# Altium schematic symbol library BRye_SCHLib.SchLib: 46 symbols
Pins are listed as number, name and electrical type; pins without a type are passive.

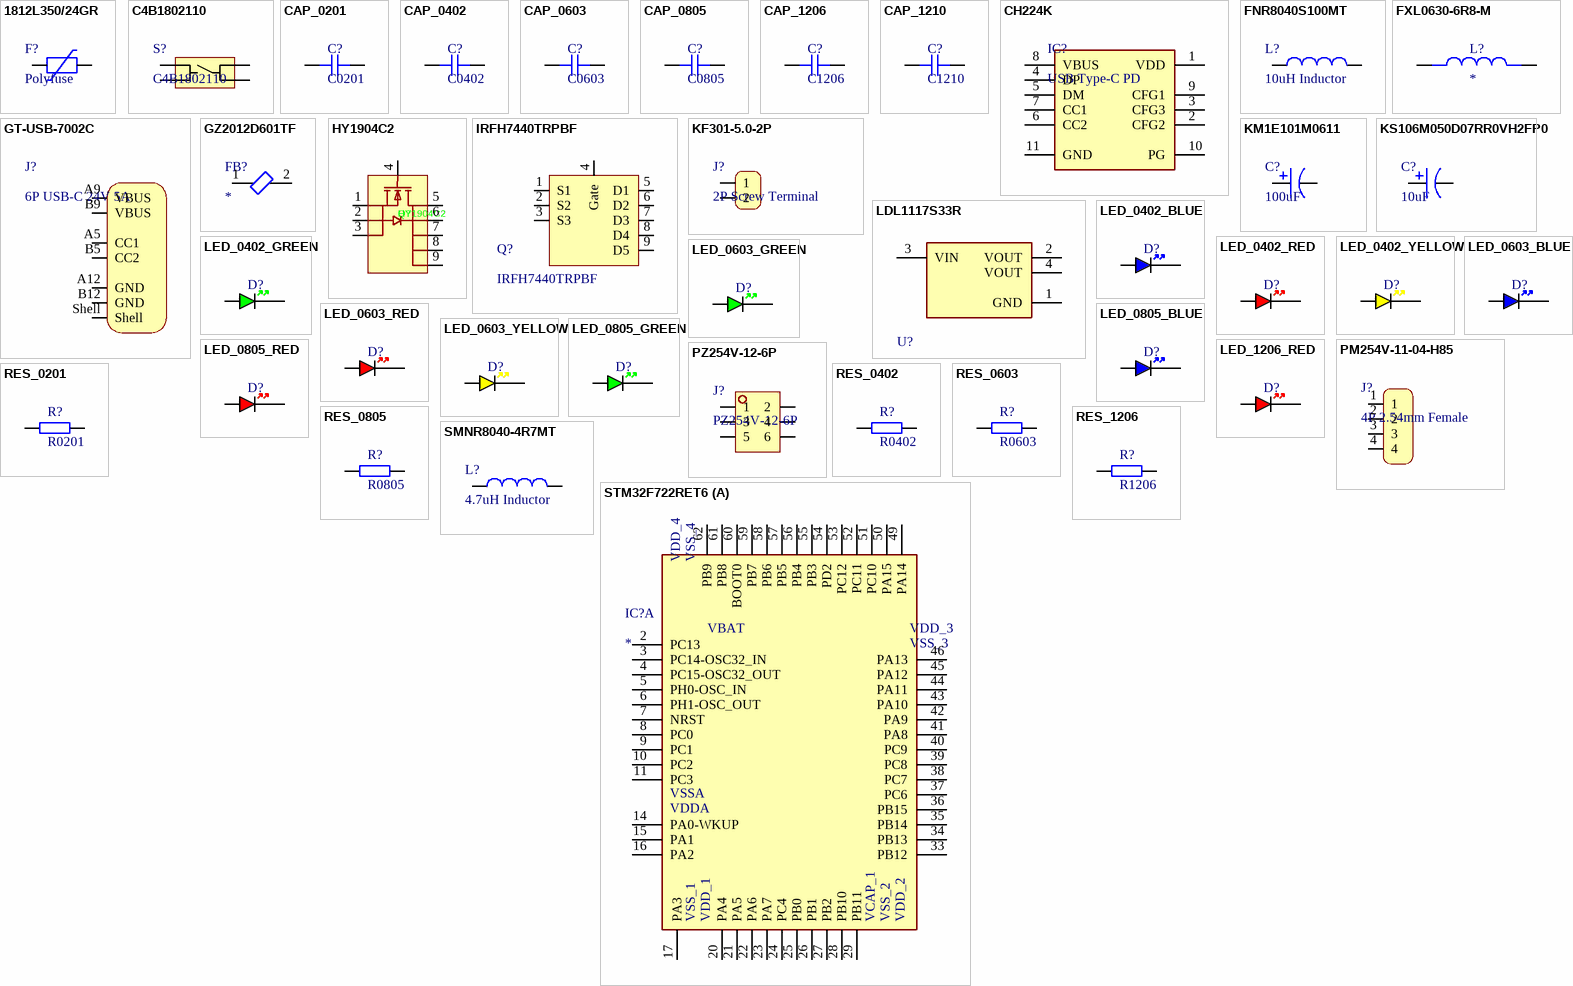
[diagram p0: symbols 1812L350/24GR to STM32F722RET6]

## 1812L350/24GR
designator F?, comment Polyfuse
24V 3.5A 40A 6A 8mΩ 1812 PTC Resettable Fuses RoHS; Manufacturer: LUTE; Manufacturer Part Number: 1812L350/24GR; LCSC: C53280178
footprint 1812L350/24GR
pins: 1, 2

## C4B1802110
designator S?
SMD NO Push Button Switch
footprint SW-SMD_4P-L3.5-W3.0-P1.50-LS4.7
pins: 1, 2, 3, 4

## CAP_0201
designator C?, comment C0201
Capacitor SMD 0201; Manufacturer: *; Manufacturer Part Number: *; Distributor Link: *; LCSC: *; Rating: *; Dielectric: *
footprint CAP_0201
pins: 1, 2

## CAP_0402
designator C?, comment C0402
Capacitor SMD 0402; Manufacturer: *; Manufacturer Part Number: *; Distributor Link: *; LCSC: *; Rating: *; Dielectric: *
footprint CAP_0402
pins: 1, 2

## CAP_0603
designator C?, comment C0603
Capacitor SMD 0603; Manufacturer: *; Manufacturer Part Number: *; Distributor Link: *; LCSC: *; Rating: *; Dielectric: *
footprint CAP_0603
pins: 1, 2

## CAP_0805
designator C?, comment C0805
Capacitor SMD 0805; Manufacturer: *; Manufacturer Part Number: *; Distributor Link: *; LCSC: *; Rating: *; Dielectric: *
footprint CAP_0805
pins: 1, 2

## CAP_1206
designator C?, comment C1206
Capacitor SMD 1206; Manufacturer: *; Manufacturer Part Number: *; Distributor Link: *; LCSC: *; Rating: *; Dielectric: *
footprint CAP_1206
pins: 1, 2

## CAP_1210
designator C?, comment C1210
Capacitor SMD 1210; Manufacturer: *; Manufacturer Part Number: *; Distributor Link: *; LCSC: *; Rating: *; Dielectric: *
footprint CAP_1210
pins: 1, 2

## CH224K
designator IC?, comment USB Type-C PD
Manufacturer_Name: WCH; Manufacturer_Part_Number: CH224K; Datasheet Link: https://datasheet.lcsc.com/lcsc/2204251615_WCH-Jiangsu-Qin-Heng-CH224K_C970725.pdf; Height: 1.8mm
footprint SOP100P600X180-11N
pins: 1 VDD, 2 CFG2, 3 CFG3, 4 DP, 5 DM, 6 CC2, 7 CC1, 8 VBUS, 9 CFG1, 10 PG, 11 GND

## FNR8040S100MT
designator L?, comment 10uH Inductor
10uH 3.6A 4.1A 38mR inductor, SMD 8x8; Manafacturer part: FNR8040S100MT; Manafacturer: cjiang; LCSC Part: C168127
footprint SMD 8x8 Inductor
pins: 1, 2

## FXL0630-6R8-M
designator L?
MP: FXL0630-6R8-M; MF: AN; SnapEDA_Link: https://www.snapeda.com/parts/FXL0630-6R8-M/AN/view-part/?ref=snap; Availability: Not in stock; Price: None; Check_prices: https://www.snapeda.com/parts/FXL0630-6R8-M/AN/view-part/?ref=eda; Package: None; Value: *
footprint INDM7066X300N
pins: 1, 2

## GT-USB-7002C
designator J?, comment 6P USB-C 24V 5A
USB-C (USB TYPE-C) Receptacle Connector 6 Position Surface Mount, Right Angle, rated 24V and 5A; Manufacturer: G-Switch; Manufacturer Part Number: GT-USB-7002C; LCSC: C5117884
footprint GT-USB-7002C (6 Pin USB type-c footrprint)
pins: A5 CC1, A9 VBUS (power), A12 GND (power), B5 CC2, B9 VBUS (power), B12 GND (power), Shell

## GZ2012D601TF
designator FB?
Ferrite Beads 600 @ 100MHz 500mA 0805 RoHS; Manufacturer_Name: SUNLORD; Manufacturer_Part_Number: GZ2012D601TF; Datasheet Link: https://datasheet.lcsc.com/szlcsc/Sunlord-GZ2012D601TF_C1017.pdf; Height: 1.05mm
footprint BEADC2112X105N
pins: 1, 2

## HY1904C2
designator Q?
Manufacturer: HUAYI(华羿微); Add into BOM: yes; Number: 1 N-Channel; Drain to Source Voltage: 40V; Current - Continuous Drain(Id): 65A; RDS(on): 7mΩ@4.5V; Pd - Power Dissipation: 48W; Gate Threshold Voltage (Vgs(th)): 3V@250uA; Input Capacitance(Ciss): 2.391nF; Reverse Transfer Capacitance (Crss@Vds): 195pF; Type: N-Channel; Symbol: HY1904C2; Device: HY1904C2; LCSC Part Name: 1个N沟道 耐压:40V 电流:65A; Supplier Part: C358116; Manufacturer Part: HY1904C2; Supplier Footprint: PPAK-8L(5x6); JLCPCB Part Class: Extended Part; Datasheet: https://item.szlcsc.com/datasheet/HY1904C2/333126.html; Supplier: LCSC; Convert to PCB: yes; Operating Temperature: -55℃~+150℃
footprint HY1904C2
pins: 1 S, 2 S, 3 S, 4 G, 5 D, 6 D, 7 D, 8 D, 9 D

## IRFH7440TRPBF
designator Q?
footprint IRFH7440TRPBF (IRFH7440TRPBF Footprint)
pins: 1 S1, 2 S2, 3 S3, 4 Gate, 5 D1, 6 D2, 7 D3, 8 D4, 9 D5

## KF301-5.0-2P
designator J?, comment 2P Screw Terminal
2 Position Wire to Board Terminal Block Through Hole 5mm
footprint KF301-5.0-2P
pins: 1, 2

## KM1E101M0611
designator C?, comment 100uF
100uF 25V Aluminum Electrolytic Capacitors Through Hole 2000hrs@105℃; Manufacturer: ROQANG; Manufacturer Part Number: KM1E101M0611; LCSC: C2873969
footprint CAP-TH_BD6.0-P2.50-D0.5-FD
pins: 1, 2

## KS106M050D07RR0VH2FP0
designator C?, comment 10uF
10uF 50V Aluminum Electrolytic Capacitors Through Hole,D5xL7mm 1000hrs@105℃; Manafacturer Part: KS106M050D07RR0VH2FP0; Manafacturer: Chengx; LCSC Part: C45669
footprint CAP-TH_BD5.0-P2.00-D0.8-FD
pins: 1, 2

## LDL1117S33R
designator U?
IC REG LINEAR 3.3V 1.2A SOT223
footprint SOT-223
pins: 1 GND (power), 2 VOUT, 3 VIN (power), 4 VOUT

## LED_0402_BLUE
designator D?, comment BLUE  (value not drawn)
LED 0402 BLUE SMD
footprint LED_0402_BLUE
pins: A, K

## LED_0402_GREEN
designator D?, comment GREEN  (value not drawn)
LED 0402 GREEN SMD
footprint LED_0402_GREEN
pins: A, K

## LED_0402_RED
designator D?, comment RED  (value not drawn)
LED 0402 RED SMD
footprint LED_0402_RED
pins: A, K

## LED_0402_YELLOW
designator D?, comment YELLOW  (value not drawn)
LED 0402 YELLOW SMD
footprint LED_0402_YELLOW
pins: A, K

## LED_0603_BLUE
designator D?, comment BLUE  (value not drawn)
LED 0603 BLUE SMD
footprint LED_0603_BLUE
pins: A, K

## LED_0603_GREEN
designator D?, comment GREEN  (value not drawn)
LED 0603 GREEN SMD
footprint LED_0603_GREEN
pins: A, K

## LED_0603_RED
designator D?, comment RED  (value not drawn)
LED 0603 RED SMD
footprint LED_0603_RED
pins: A, K

## LED_0603_YELLOW
designator D?, comment YELLOW  (value not drawn)
LED 0603 YELLOW SMD
footprint LED_0603_YELLOW
pins: A, K

## LED_0805_BLUE
designator D?, comment BLUE  (value not drawn)
LED 0805 BLUE SMD; Manufacturer: *; Manufacturer Part Number: *; Distributor Link: *; LCSC: *
footprint LED_0805_BLUE
pins: A, K

## LED_0805_GREEN
designator D?, comment GREEN  (value not drawn)
LED 0805 GREEN SMD; Manufacturer: *; Manufacturer Part Number: *; Distributor Link: *; LCSC: *
footprint LED_0805_GREEN
pins: A, K

## LED_0805_RED
designator D?, comment GREEN  (value not drawn)
LED 0805 RED SMD; Manufacturer: *; Manufacturer Part Number: *; Distributor Link: *; LCSC: *
footprint LED_0805_RED
pins: A, K

## LED_1206_RED
designator D?, comment RED  (value not drawn)
LED 1206 RED SMD; Manufacturer: *; Manufacturer Part Number: *; Distributor Link: *; LCSC: *
footprint LED_1206_RED_HAND
pins: A, K

## PM254V-11-04-H85
designator J?, comment 4P 2.54mm Female
-40℃~+105℃ Through Hole 3A 4P 8.5mm 1x4P Top 2.54mm 1 Square Hole Through Hole,P=2.54mm Headers, Receptacles, Female Sockets RoHS; Manufacturer: XFCN; Manufacturer Part: PM254V-11-04-H85; LCSC Part: C541851
footprint 4P 2.54mm Female12
pins: 1, 2, 3, 4

## PZ254V-12-6P
designator J?
2x3p 2.54mm Pitch male pin header; Manufacturer: XFCN; Manufacturer Part Number: PZ254V-12-6P; LCSC: C492420
footprint PZ254V-12-6P
pins: 1, 2, 3, 4, 5, 6

## RES_0201
designator R?, comment R0201
Resistor SMD 0201; Manufacturer: *; Manufacturer Part Number: *; Distributor Link: *; LCSC: *
footprint RES_0201
pins: 1, 2

## RES_0402
designator R?, comment R0402
Resistor SMD 0402; Manufacturer: *; Manufacturer Part Number: *; Distributor Link: *; LCSC: *
footprint RES_0402
pins: 1, 2

## RES_0603
designator R?, comment R0603
Resistor SMD 0603; Manufacturer: *; Manufacturer Part Number: *; Distributor Link: *; LCSC: *
footprint RES_0603
pins: 1, 2

## RES_0805
designator R?, comment R0805
Resistor SMD 0805; Manufacturer: *; Manufacturer Part Number: *; Distributor Link: *; LCSC: *
footprint RES_0805
pins: 1, 2

## RES_1206
designator R?, comment R1206
Resistor SMD 1206; Manufacturer: *; Manufacturer Part Number: *; Distributor Link: *; LCSC: *
footprint RES_1206
pins: 1, 2

## SMNR8040-4R7MT
designator L?, comment 4.7uH Inductor
5.9A 4.7uH 5.9A 24mΩ Magnetic Shielded Inductor ±20% SMD,8x8mm Fixed Inductors RoHS; Manufacturer: Shun Xiang Nuo; Manufacturer Part Number: SMNR8040-4R7MT; LCSC: C266436
footprint SMD 8x8 Inductor
pins: 1, 2

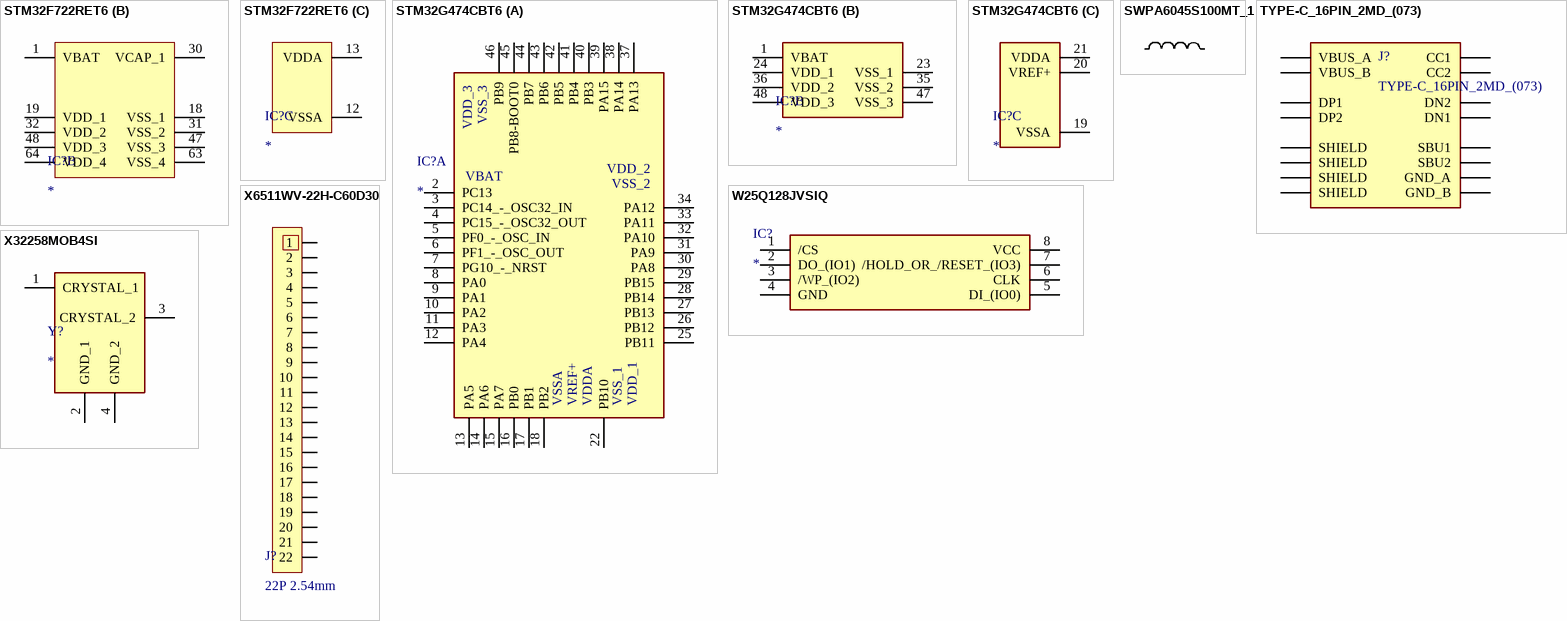
[diagram p1: symbols STM32F722RET6 to X32258MOB4SI]

## STM32F722RET6
designator IC?
Integrated Circuit; Manufacturer_Name: STMicroelectronics; Manufacturer_Part_Number: STM32F722RET6; Datasheet Link: https://www.st.com/resource/en/datasheet/stm32f722ic.pdf; Height: 1.6mm; Mouser Part Number: 511-STM32F722RET6; Mouser Price/Stock: https://www.mouser.co.uk/ProductDetail/STMicroelectronics/STM32F722RET6?qs=NoqMqJKvPFLRYC3WLxVXLQ%3D%3D; Arrow Part Number: STM32F722RET6; Arrow Price/Stock: https://www.arrow.com/en/products/stm32f722ret6/stmicroelectronics?utm_currency=USD&region=nac
footprint QFP50P1200X1200X160-64N
part A pins: 2 PC13, 3 PC14-OSC32_IN, 4 PC15-OSC32_OUT, 5 PH0-OSC_IN, 6 PH1-OSC_OUT, 7 NRST, 8 PC0, 9 PC1, 10 PC2, 11 PC3, 14 PA0-WKUP, 15 PA1, 16 PA2, 17 PA3, 20 PA4, 21 PA5, 22 PA6, 23 PA7, 24 PC4, 25 PB0, 26 PB1, 27 PB2, 28 PB10, 29 PB11, 33 PB12, 34 PB13, 35 PB14, 36 PB15, 37 PC6, 38 PC7, 39 PC8, 40 PC9, 41 PA8, 42 PA9, 43 PA10, 44 PA11, 45 PA12, 46 PA13, 49 PA14, 50 PA15, 51 PC10, 52 PC11, 53 PC12, 54 PD2, 55 PB3, 56 PB4, 57 PB5, 58 PB6, 59 PB7, 60 BOOT0, 61 PB8, 62 PB9
part B pins: 1 VBAT, 18 VSS_1, 19 VDD_1, 30 VCAP_1, 31 VSS_2, 32 VDD_2, 47 VSS_3, 48 VDD_3, 63 VSS_4, 64 VDD_4
part C pins: 12 VSSA, 13 VDDA

## STM32G474CBT6
designator IC?
Integrated Circuit; Manufacturer Name: STMicroelectronics; Manufacturer Part Number: STM32G474CBT6TR; Description: Mainstream Arm Cortex-M4 MCU 170 MHz with 128 Kbytes of Flash memory; Datasheet Link: https://www.st.com/resource/en/datasheet/stm32g474cb.pdf; Height: 1.6mm; Mouser Part Number: 511-STM32G474CBT6TR; Mouser Price/Stock: https://www.mouser.co.uk/ProductDetail/STMicroelectronics/STM32G474CBT6TR?qs=sPbYRqrBIVmx65Oml6enIQ%3D%3D; Arrow Part Number: STM32G474CBT6TR; Arrow Price/Stock: https://www.arrow.com/en/products/stm32g474cbt6tr/stmicroelectronics.html?utm_currency=USD&region=nac; LCSC: C730123
footprint QFP50P900X900X160-48N
part A pins: 2 PC13, 3 PC14_-_OSC32_IN, 4 PC15_-_OSC32_OUT, 5 PF0_-_OSC_IN, 6 PF1_-_OSC_OUT, 7 PG10_-_NRST, 8 PA0, 9 PA1, 10 PA2, 11 PA3, 12 PA4, 13 PA5, 14 PA6, 15 PA7, 16 PB0, 17 PB1, 18 PB2, 22 PB10, 25 PB11, 26 PB12, 27 PB13, 28 PB14, 29 PB15, 30 PA8, 31 PA9, 32 PA10, 33 PA11, 34 PA12, 37 PA13, 38 PA14, 39 PA15, 40 PB3, 41 PB4, 42 PB5, 43 PB6, 44 PB7, 45 PB8-BOOT0, 46 PB9
part B pins: 1 VBAT, 23 VSS_1, 24 VDD_1, 35 VSS_2, 36 VDD_2, 47 VSS_3, 48 VDD_3
part C pins: 19 VSSA, 20 VREF+, 21 VDDA

## SWPA6045S100MT_1
designator L?, comment 10uH  (value not drawn)
10uH Inductor; Manufacturer: Sunlord(顺络); Symbol: SWPA6045S100MT; Add into BOM: yes; Tolerance: ±20%; Current - Saturation(Isat): 3.5A; Device: SWPA6045S100MT; LCSC Part Name: 10uH ±20% 3.5A; Supplier Part: C79272; Manufacturer Part: SWPA6045S100MT; Supplier Footprint: SMD,6x6mm; JLCPCB Part Class: Extended Part; Datasheet: https://atta.szlcsc.com/upload/public/pdf/source/20231024/317626D2AA2F8AB4113C1875E432E6E1.pdf; Supplier: LCSC; Convert to PCB: yes; Value: 10uH; Type: -; Ratings: -
footprint SWPA6045S100MT_1
pins: 1, 2

## TYPE-C_16PIN_2MD_(073)
designator J?
DC-5V 5A Type C USB
footprint SHOUHAN_TYPE-C_16PIN_2MD_(073) (Footprint not found)
pins: A1_B12 GND_A, A4_B9 VBUS_A, A5 CC1, A6 DP1, A7 DN1, A8 SBU1, B1_A12 GND_B, B4_A9 VBUS_B, B5 CC2, B6 DP2, B7 DN2, B8 SBU2, SH1 SHIELD, SH2 SHIELD, SH3 SHIELD, SH4 SHIELD

## W25Q128JVSIQ
designator IC?
Integrated Circuit; Manufacturer_Name: Winbond; Manufacturer_Part_Number: W25Q128JVSIQ; Datasheet Link: https://www.winbond.com/hq/search-resource-file.jsp?partNo=W25Q128JVSIQ&type=datasheet; Height: 2.16mm; Mouser Part Number: 454-W25Q128JVSIQ; Mouser Price/Stock: https://www.mouser.co.uk/ProductDetail/Winbond/W25Q128JVSIQ?qs=qSfuJ%252Bfl%2Fd6tLXvPR4fl9w%3D%3D; Arrow Part Number: W25Q128JVSIQ; Arrow Price/Stock: https://www.arrow.com/en/products/w25q128jvsiq/winbond-electronics?utm_currency=USD&region=nac
footprint SOIC127P790X216-8N
pins: 1 /CS, 2 DO_(IO1), 3 /WP_(IO2), 4 GND, 5 DI_(IO0), 6 CLK, 7 /HOLD_OR_/RESET_(IO3), 8 VCC

## X6511WV-22H-C60D30
designator J?, comment 22P 2.54mm
22P Male Header, 2.54mm Pitch
footprint 22P Male Header, 2.54mm Pitch
pins: 1, 2, 3, 4, 5, 6, 7, 8, 9, 10, 11, 12, 13, 14, 15, 16, 17, 18, 19, 20, 21, 22

## X32258MOB4SI
designator Y?
Crystal or Oscillator; Manufacturer_Name: YXC; Manufacturer_Part_Number: X32258MOB4SI; Datasheet Link: https://item.szlcsc.com/datasheet/X32258MOB4SI/2777872.html; Height: 0.8mm
footprint X32258MOB4SI
pins: 1 CRYSTAL_1, 2 GND_1, 3 CRYSTAL_2, 4 GND_2